# Altium footprint library Zadanie.PcbLib: 5 footprints
Each footprint in its own frame and in the unit in brackets; x right, y up, seen from the top. Pads: shape width x height; smd on the part's side, far side on the other; paste and mask are expansions set on the pad; w line width, h text height; cw(c..) or ccw(c..) is an arc to the next point about the centre after c.
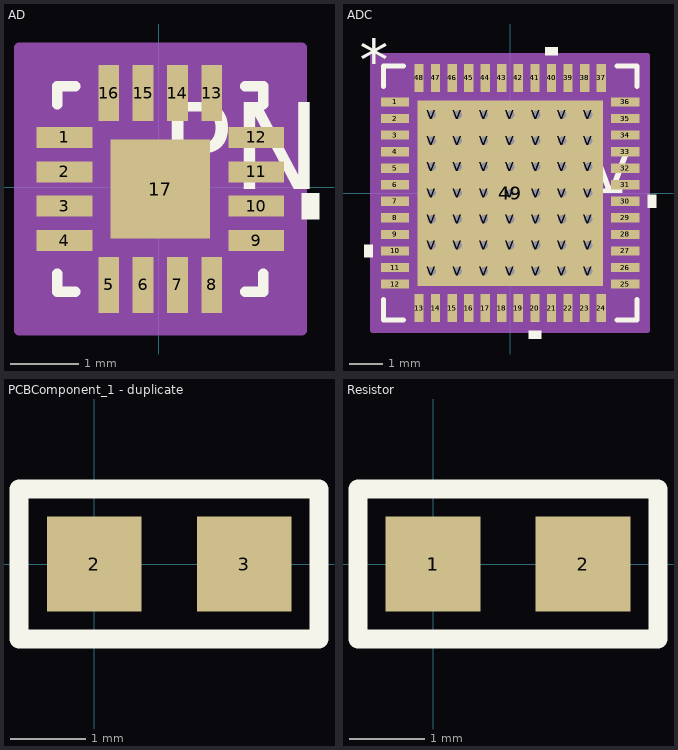
[diagram p0: the footprints below, top view; thin cyan lines are the x and y axes]

## AD [mil]
pads (17):
  rect 32x12 smd mask+5: 1(-54,28.53) 2(-54,8.84) 3(-54,-10.84) 4(-54,-30.53) 9(56,-30.53) 10(56,-10.84) 11(56,8.84) 12(56,28.53)
  rect 12x32 smd mask+5: 5(-28.53,-56) 6(-8.84,-56) 7(10.84,-56) 8(30.53,-56) 13(30.53,54) 14(10.84,54) 15(-8.84,54) 16(-28.53,54)
  rect 57x57 smd mask-28: 17(1,-1)
Top Overlay:
  region: 82,-3.34 92,-3.34 92,-18.34 82,-18.34
  lines w6: -58,-49.63 -58,-60 -47.63,-60 ; -58,47.63 -58,58 -47.63,58 ; 49.63,-60 60,-60 60,-49.63 ; 49.63,58 60,58 60,47.63
  text "PN" at 1,-1 h50
Mechanical 15:
  region: 82,-82 -80,-82 -80,80 82,80
  lines w6: -80,-82 82,-82 82,80 -80,80 -80,-82
3D body: height 0, standoff 0, extent 1,-1 1,-1

## ADC [mil]
pads (196):
  rect 33.46x11.02 smd paste-5.51: 1(-136.81,108.27) 1(-136.81,108.27) 2(-136.81,88.58) 2(-136.81,88.58) 3(-136.81,68.9) 3(-136.81,68.9) 4(-136.81,49.21) 4(-136.81,49.21) 5(-136.81,29.53) 5(-136.81,29.53) 6(-136.81,9.84) 6(-136.81,9.84) 7(-136.81,-9.84) 7(-136.81,-9.84) 8(-136.81,-29.53) 8(-136.81,-29.53) 9(-136.81,-49.21) 9(-136.81,-49.21) 10(-136.81,-68.9) 10(-136.81,-68.9) 11(-136.81,-88.58) 11(-136.81,-88.58) 12(-136.81,-108.27) 12(-136.81,-108.27) 25(136.81,-108.27) 25(136.81,-108.27) 26(136.81,-88.58) 26(136.81,-88.58) 27(136.81,-68.9) 27(136.81,-68.9) 28(136.81,-49.21) 28(136.81,-49.21) 29(136.81,-29.53) 29(136.81,-29.53) 30(136.81,-9.84) 30(136.81,-9.84) 31(136.81,9.84) 31(136.81,9.84) 32(136.81,29.53) 32(136.81,29.53) 33(136.81,49.21) 33(136.81,49.21) 34(136.81,68.9) 34(136.81,68.9) 35(136.81,88.58) 35(136.81,88.58) 36(136.81,108.27) 36(136.81,108.27)
  rect 11.02x33.46 smd paste-5.51: 13(-108.3,-136.81) 13(-108.3,-136.81) 14(-88.61,-136.81) 14(-88.61,-136.81) 15(-68.92,-136.81) 15(-68.92,-136.81) 16(-49.23,-136.81) 16(-49.23,-136.81) 17(-29.54,-136.81) 17(-29.54,-136.81) 18(-9.85,-136.81) 18(-9.85,-136.81) 19(9.85,-136.81) 19(9.85,-136.81) 20(29.54,-136.81) 20(29.54,-136.81) 21(49.23,-136.81) 21(49.23,-136.81) 22(68.92,-136.81) 22(68.92,-136.81) 23(88.61,-136.81) 23(88.61,-136.81) 24(108.3,-136.81) 24(108.3,-136.81) 37(108.3,136.81) 37(108.3,136.81) 38(88.61,136.81) 38(88.61,136.81) 39(68.92,136.81) 39(68.92,136.81) 40(49.23,136.81) 40(49.23,136.81) 41(29.54,136.81) 41(29.54,136.81) 42(9.85,136.81) 42(9.85,136.81) 43(-9.85,136.81) 43(-9.85,136.81) 44(-29.54,136.81) 44(-29.54,136.81) 45(-49.23,136.81) 45(-49.23,136.81) 46(-68.92,136.81) 46(-68.92,136.81) 47(-88.61,136.81) 47(-88.61,136.81) 48(-108.3,136.81) 48(-108.3,136.81)
  rect 220.47x220.47 smd paste-109.74 mask-109.5: 49(0,0) 49(0,0)
  round 20 / inner round 60 / far side round 20 hole 10: V(-93,-93) V(-93,-93) V(-93,-62) V(-93,-62) V(-93,-31) V(-93,-31) V(-93,0) V(-93,0) V(-93,31) V(-93,31) V(-93,62) V(-93,62) V(-93,93) V(-93,93) V(-62,-93) V(-62,-93) V(-62,-62) V(-62,-62) V(-62,-31) V(-62,-31) V(-62,0) V(-62,0) V(-62,31) V(-62,31) V(-62,62) V(-62,62) V(-62,93) V(-62,93) V(-31,-93) V(-31,-93) V(-31,-62) V(-31,-62) V(-31,-31) V(-31,-31) V(-31,0) V(-31,0) V(-31,31) V(-31,31) V(-31,62) V(-31,62) V(-31,93) V(-31,93) V(0,-93) V(0,-93) V(0,-62) V(0,-62) V(0,-31) V(0,-31) V(0,0) V(0,0) V(0,31) V(0,31) V(0,62) V(0,62) V(0,93) V(0,93) V(31,-93) V(31,-93) V(31,-62) V(31,-62) V(31,-31) V(31,-31) V(31,0) V(31,0) V(31,31) V(31,31) V(31,62) V(31,62) V(31,93) V(31,93) V(62,-93) V(62,-93) V(62,-62) V(62,-62) V(62,-31) V(62,-31) V(62,0) V(62,0) V(62,31) V(62,31) V(62,62) V(62,62) V(62,93) V(62,93) V(93,-93) V(93,-93) V(93,-62) V(93,-62) V(93,-31) V(93,-31) V(93,0) V(93,0) V(93,31) V(93,31) V(93,62) V(93,62) V(93,93) V(93,93)
Top Overlay:
  region: 56.73,163.54 41.73,163.54 41.73,173.54 56.73,173.54
  region: 163.54,-2.34 173.54,-2.34 173.54,-17.34 163.54,-17.34
  region: 37.03,-163.54 22.04,-163.54 22.04,-173.54 37.03,-173.54
  region: -163.54,-61.4 -173.54,-61.4 -173.54,-76.4 -163.54,-76.4
  region: 56.73,163.54 41.73,163.54 41.73,173.54 56.73,173.54
  region: 163.54,-2.34 173.54,-2.34 173.54,-17.34 163.54,-17.34
  region: 37.03,-163.54 22.04,-163.54 22.04,-173.54 37.03,-173.54
  region: -163.54,-61.4 -173.54,-61.4 -173.54,-76.4 -163.54,-76.4
  lines w6: -150.75,-150.75 -150.75,-126.88 -150.75,-150.75 ; -150.75,-150.75 -126.91,-150.75 -150.75,-150.75 ; -150.75,150.75 -150.75,126.88 -150.75,150.75 ; -150.75,150.75 -126.91,150.75 -150.75,150.75 ; 150.75,-150.75 126.91,-150.75 150.75,-150.75 ; 150.75,-150.75 150.75,-126.88 150.75,-150.75 ; 150.75,150.75 126.91,150.75 150.75,150.75 ; 150.75,150.75 150.75,126.88 150.75,150.75
  text "TOL" at 0,0 h50
  text "VAL" at 0,0 h50
  text "DEV" at 0,0 h50
  text "PN" at 0,0 h50
  text "*" at -178.54,133.11 h50
  text "TOL" at 0,0 h50
  text "VAL" at 0,0 h50
  text "DEV" at 0,0 h50
  text "PN" at 0,0 h50
  text "*" at -178.54,133.11 h50
Top Paste:
  drawing of 224 lines, arcs and shapes, not listed
Top Solder:
  drawing of 128 lines, arcs and shapes, not listed
Mechanical 13:
  text "*" at -178.54,133.11 h50
  text "*" at -178.54,133.11 h50
Mechanical 15:
  region: 163.54,-163.54 -163.54,-163.54 -163.54,163.54 163.54,163.54
  region: 163.54,-163.54 -163.54,-163.54 -163.54,163.54 163.54,163.54
  lines w6: -163.54,-163.54 163.54,-163.54 ; -163.54,-163.54 -163.54,163.54 ; -163.54,-163.54 163.54,-163.54 ; -163.54,-163.54 -163.54,163.54 ; -163.54,163.54 163.54,163.54 ; -163.54,163.54 163.54,163.54 ; 163.54,-163.54 163.54,163.54 ; 163.54,-163.54 163.54,163.54
3D body: height 0, standoff 0, extent 0,0 0,0
3D body: height 0, standoff 0, extent 0,0 0,0

## PCBComponent_1 [mil]

## PCBComponent_1 - duplicate [mm]
pads (2):
  rect 1.26x1.27 smd: 2(0,0) 3(2,0)
Top Overlay:
  lines w0.254: -1,-1 -1,1 3,1 3,-1 -1,-1

## Resistor [mm]
pads (3):
  rect 1.27x1.27 smd: 1(0,0) 1(0,0) 2(2,0)
Top Overlay:
  lines w0.254: -1,-1 -1,1 3,1 3,-1 -1,-1